# Altium schematic symbol library CONN_5X_686105183822.SchLib: 1 symbol
Pins are listed as number, name and electrical type; pins without a type are passive.

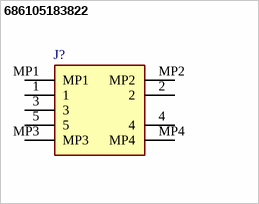
[diagram p0: symbol 686105183822]

## 686105183822
designator J?
Wurth Elektronik WR-FPC Series 1mm Pitch 5 Way Vertical SMT Female FPC Connector, ZIF Vertical Contact; Geometry.Height: 4mm; Mouser Part Number: 710-686105183822; Mouser Price/Stock: https://www.mouser.co.uk/ProductDetail/Wurth-Elektronik/686105183822?qs=5aG0NVq1C4yzCXO0R%2FfS4w%3D%3D; Manufacturer_Name: Wurth Elektronik; Manufacturer_Part_Number: 686105183822; Datasheet Link: https://componentsearchengine.com/Datasheets/1/686105183822.pdf
footprint 686105183822
pins: 1, 2, 3, 4, 5, MP1, MP2, MP3, MP4